# Altium schematic symbol library C-CGA4J3X7R1C475K125AB.Schlib: 1 symbol
Pins are listed as number, name and electrical type; pins without a type are passive.

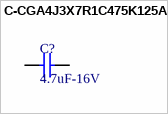
[diagram p0: symbol C-CGA4J3X7R1C475K125AB]

## C-CGA4J3X7R1C475K125AB
designator C?, comment 4.7uF-16V
Multilayer Ceramic Capacitors MLCC - SMD/SMT 0805 4.7uF 16volts X7R +/-10%
pins: 1, 2